# Altium schematic symbol library IXDN609SIATR.SchLib: 1 symbol
Pins are listed as number, name and electrical type; pins without a type are passive.

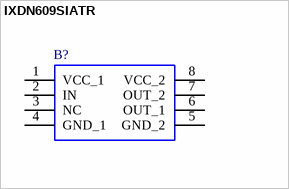
[diagram p0: symbol IXDN609SIATR]

## IXDN609SIATR
designator B?
Driver 9A 1-OUT Lo Side Non-Inv Automotive 8-Pin SOIC T/R; Manufacturer_Name: LITTELFUSE; Geometry.Height: 1.676mm; Manufacturer_Part_Number: IXDN609SIATR; Mouser Part Number: 849-IXDN609SIATR; Mouser Price/Stock: https://www.mouser.co.uk/ProductDetail/IXYS-Integrated-Circuits/IXDN609SIATR?qs=8uBHJDVwVqzogRpgL3z3VA%3D%3D; Arrow Part Number: IXDN609SIATR; Arrow Price/Stock: https://www.arrow.com/en/products/ixdn609siatr/littelfuse?region=nac; Mouser Testing Part Number: *; Mouser Testing Price/Stock: *; Datasheet Link: http://ixapps.ixys.com/DataSheet/IXD_609.pdf
footprint SOIC127P599X168-8N
pins: 1 VCC_1, 2 IN, 3 NC, 4 GND_1, 5 GND_2, 6 OUT_1, 7 OUT_2, 8 VCC_2